# EAGLE library part SN74HC4851PWR (library SN74HC4851PWR)
Texas Instruments SN74HC4851PWR, Multiplexer/Demultiplexer Single 8:1, 3 V, 5 V, 16-Pin TSSOP Source: Datasheet <http://www.ti.com/lit/gpn/sn74hc4851>
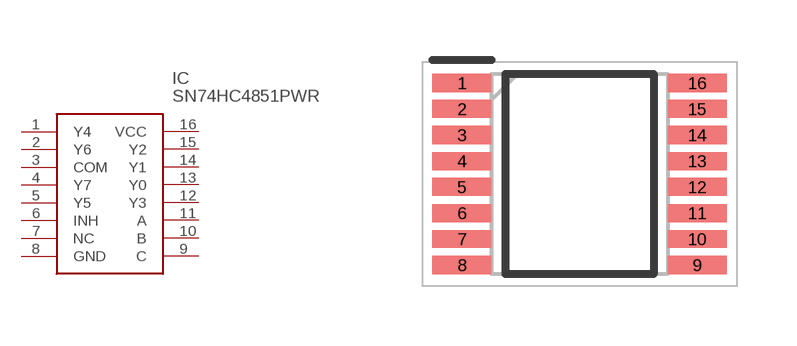
[diagram p0: symbol with the pads of SOP65P640X120-16N; footprint SOP65P640X120-16N]

Designator prefix IC

## SN74HC4851PWR (Description: Texas Instruments SN74HC4851PWR, Multiplexer/Demultiplexer Single 8:1, 3 V, 5 V, 16-Pin TSSOP; Height: 1.2mm; Manufacturer_Name: Texas Instruments; Manufacturer_Part_Number: SN74HC4851PWR; Mouser_Part_Number: 595-SN74HC4851PWR; Mouser_Price-Stock: https://www.mouser.co.uk/ProductDetail/Texas-Instruments/SN74HC4851PWR?qs=AgY10sKTvDJiHOKineifvQ%3D%3D)  [SOP65P640X120-16N]
1  Y4
2  Y6
3  COM
4  Y7
5  Y5
6  INH
7  NC  nc
8  GND
9  C
10  B
11  A
12  Y3
13  Y0
14  Y1
15  Y2
16  VCC

## Footprint SOP65P640X120-16N (pad centres in mm)
PW0016A
smd 1.475 x 0.45: 1 -2.938,2.275; 2 -2.938,1.625; 3 -2.938,0.975; 4 -2.938,0.325; 5 -2.938,-0.325; 6 -2.938,-0.975; 7 -2.938,-1.625; 8 -2.938,-2.275; 9 2.938,-2.275; 10 2.938,-1.625; 11 2.938,-0.975; 12 2.938,-0.325; 13 2.938,0.325; 14 2.938,0.975; 15 2.938,1.625; 16 2.938,2.275